# Altium schematic symbol library SIMloc.SchLib: 2 symbols
Pins are listed as number, name and electrical type; pins without a type are passive.

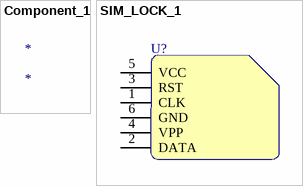
[diagram p0: symbols Component_1 to SIM_LOCK_1]

## Component_1
designator *

## SIM_LOCK_1
designator U?, comment SIM_LOCK  (value not drawn)
GateName_1: G$1; SymbolName_1: SIMLOCK-6; LibraryName: microbuilder; DeviceSetName: SIM_LOCK; Package: SIM_5002
footprint SMD-6
pins: 1 CLK, 2 DATA, 3 RST, 4 VPP, 5 VCC, 6 GND